# Altium schematic symbol library S5MC-13-F_DIODE.SchLib: 1 symbol
Pins are listed as number, name and electrical type; pins without a type are passive.

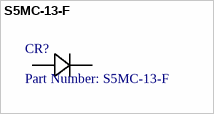
[diagram p0: symbol S5MC-13-F]

## S5MC-13-F
designator CR?, comment Part Number: S5MC-13-F
No Description Available; Vendor: Diodes Inc; Built_By: EMA_UL_Team; Type: DEV; Manufacturer_Part_Number: S5MC-13-F; Copyright: Copyright (C) 2018 Accelerated Designs. All rights reserved; RefDes: RefDes; Value: Value
footprint SMC-M
pins: 1, 2